# EAGLE library part NL4MD-V-S (library con_neutrik_ag__Speakon® Lockable Loudspeaker Connector)
The state-of-the-art chassis connector for loudspeaker / amplifier applications. They feature a unique locking system, robust plastic housing and high current silver plated contacts.
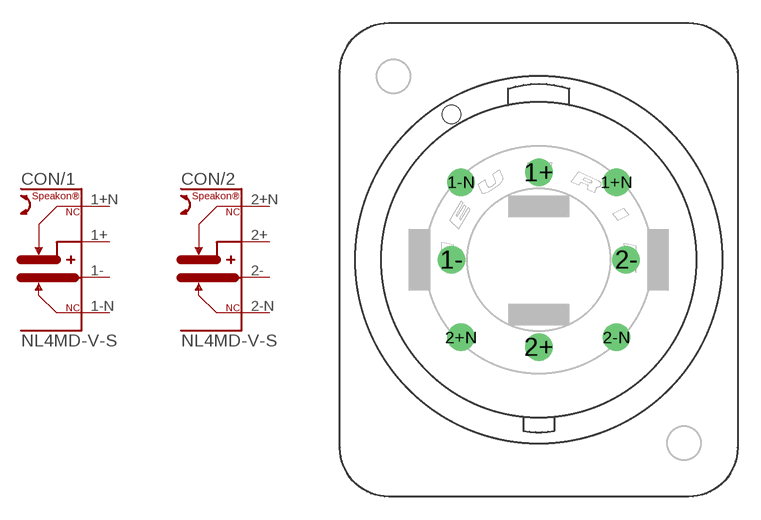
[diagram p1: symbol with the pads of NL4MD-V-S; footprint NL4MD-V-S]

Designator prefix CON; gates /1=NL*N /2=NL*N

## NL4MD-V-S  [NL4MD-V-S]
1+  /1:+  pas
1+N  /1:+N  pas
1-  /1:-  pas
1-N  /1:-N  pas
2+  /2:+  pas
2+N  /2:+N  pas
2-  /2:-  pas
2-N  /2:-N  pas

## Footprint NL4MD-V-S (pad centres in mm)
4 pole chassis connector, black D-size flange, switchable version of NL4MD-V with 8 PCB contacts (4 switching contacts). Switch is closed unless mating of Speakon cable connector. This chassis connector is not airtight.
drill 1.2 round: 1+ 0,5.715; 1+N 5.08,5.08; 1- -5.715,0; 1-N -5.08,5.08; 2+ 0,-5.715; 2+N -5.08,-5.08; 2- 5.715,0; 2-N 5.08,-5.08
hole 1.2 at -5.715,9.525